# EAGLE library part CP2102N-A01-GQFN24 (library mille-feuille)
USB to UART bridge QFN24
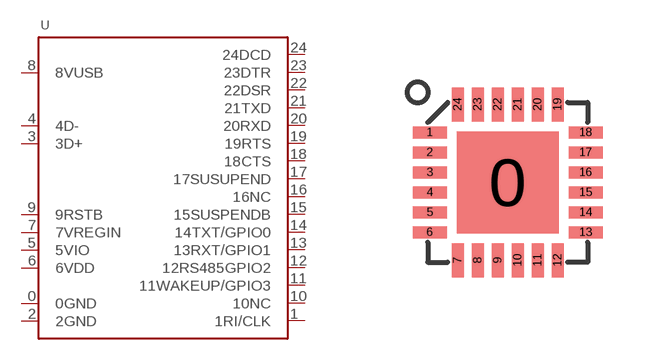
[diagram p30: symbol with the pads of QFN24; footprint QFN24]

Designator prefix U

## CP2102N-A01-GQFN24  [QFN24]
0  0GND
1  1RI/CLK
2  2GND
3  3D+
4  4D-
5  5VIO
6  6VDD
7  7VREGIN
8  8VUSB
9  9RSTB
10  10NC  nc
11  11WAKEUP/GPIO3
12  12RS485GPIO2
13  13RXT/GPIO1
14  14TXT/GPIO0
15  15SUSPENDB
16  16NC  nc
17  17SUSUPEND
18  18CTS
19  19RTS
20  20RXD
21  21TXD
22  22DSR
23  23DTR
24  24DCD

## Footprint QFN24 (pad centres in mm)
smd 2.55 x 2.55: 0 0,0
smd 0.85 x 0.3: 1 -1.95,1.25; 2 -1.95,0.75; 3 -1.95,0.25; 4 -1.95,-0.25; 5 -1.95,-0.75; 6 -1.95,-1.25; 13 1.95,-1.25; 14 1.95,-0.75; 15 1.95,-0.25; 16 1.95,0.25; 17 1.95,0.75; 18 1.95,1.25
smd 0.3 x 0.85: 7 -1.25,-1.95; 8 -0.75,-1.95; 9 -0.25,-1.95; 10 0.25,-1.95; 11 0.75,-1.95; 12 1.25,-1.95; 19 1.25,1.95; 20 0.75,1.95; 21 0.25,1.95; 22 -0.25,1.95; 23 -0.75,1.95; 24 -1.25,1.95